# EAGLE library part L293DD (library quentin)
Dual H-Bridge 600mA max current
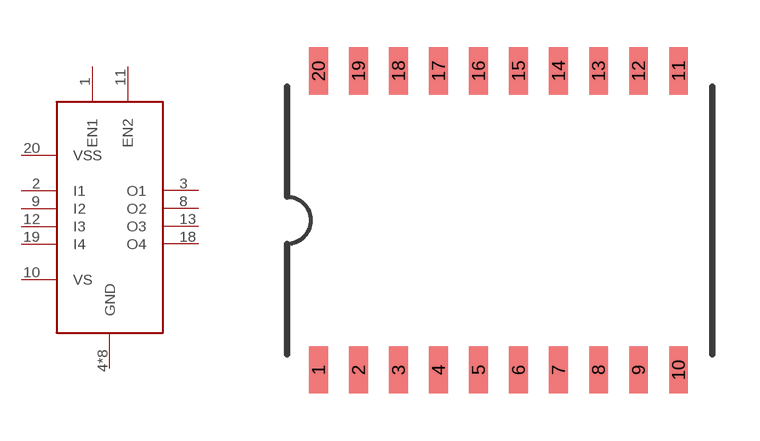
[diagram p3: symbol with the pads of SO-20; footprint SO-20]

Designator prefix -

## L293DD  [SO-20]
1  EN1
2  I1
3  O1
4  GND
5  GND
6  GND
7  GND
8  O2
9  I2
10  VS
11  EN2
12  I3
13  O3
14  GND
15  GND
16  GND
17  GND
18  O4
19  I4
20  VSS

## Footprint SO-20 (pad centres in mm)
smd 0.6 x 1.5: 1 0,0; 2 1.27,0; 3 2.54,0; 4 3.81,0; 5 5.08,0; 6 6.35,0; 7 7.62,0; 8 8.89,0; 9 10.16,0; 10 11.43,0; 11 11.43,9.5; 12 10.16,9.5; 13 8.89,9.5; 14 7.62,9.5; 15 6.35,9.5; 16 5.08,9.5; 17 3.81,9.5; 18 2.54,9.5; 19 1.27,9.5; 20 0,9.5